# Altium schematic symbol library AD7730BRUZ.Schlib: 1 symbol
Pins are listed as number, name and electrical type; pins without a type are passive.

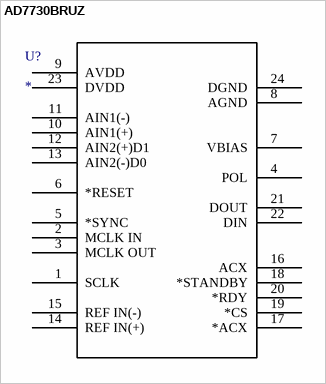
[diagram p0: symbol AD7730BRUZ]

## AD7730BRUZ
designator U?
Imported
pins: 1 SCLK, 2 MCLK IN, 3 MCLK OUT, 4 POL, 5 *SYNC, 6 *RESET, 7 VBIAS, 8 AGND, 9 AVDD, 10 AIN1(+), 11 AIN1(-), 12 AIN2(+)D1, 13 AIN2(-)D0, 14 REF IN(+), 15 REF IN(-), 16 ACX, 17 *ACX, 18 *STANDBY, 19 *CS, 20 *RDY, 21 DOUT, 22 DIN, 23 DVDD, 24 DGND